# Altium footprint library DA2032-ALD.PcbLib: 1 footprints
Each footprint in its own frame and in the unit in brackets; x right, y up, seen from the top. Pads: shape width x height; smd on the part's side, far side on the other; paste and mask are expansions set on the pad; w line width, h text height; cw(c..) or ccw(c..) is an arc to the next point about the centre after c.
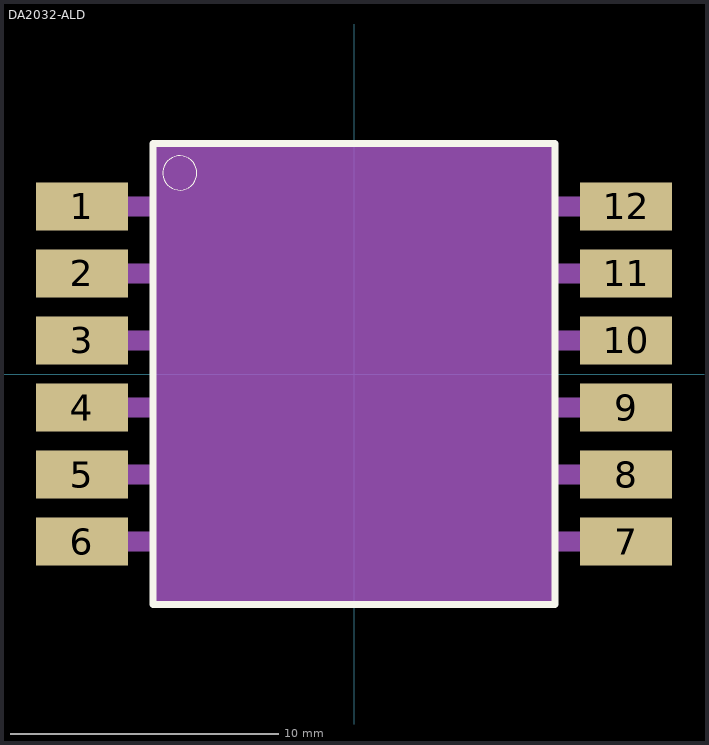
[diagram p0: the footprint, top view; thin cyan lines are the x and y axes]

## DA2032-ALD [mm] "Audio Transformers. SMD-12 Audio Transformers ROHS"
pads (12):
  rect 3.43x1.79 smd: 1(-10.155,6.25) 2(-10.155,3.75) 3(-10.155,1.25) 4(-10.155,-1.25) 5(-10.155,-3.75) 6(-10.155,-6.25) 7(10.155,-6.25) 8(10.155,-3.75) 9(10.155,-1.25) 10(10.155,1.25) 11(10.155,3.75) 12(10.155,6.25)
Top Overlay:
  circle w0.025: c-6.5,7.5 r0.64
  lines w0.254: -7.5,-8.6 7.5,-8.6 7.5,8.6 -7.5,8.6 -7.5,-8.6
Mechanical 13:
  circle w0.025: c-6.5,7.5 r0.3
  region: -7.49,-8.6 -7.49,8.6 7.49,8.6 7.49,-8.6
  region: -10.985,5.89 -10.985,6.61 -8.975,6.61 -8.975,5.89
  pour cut-out: -8.985,5.89 -8.985,6.61 -7.48,6.61 -7.48,5.89
  region: -10.985,3.39 -10.985,4.11 -8.975,4.11 -8.975,3.39
  pour cut-out: -8.985,3.39 -8.985,4.11 -7.48,4.11 -7.48,3.39
  region: -10.985,0.89 -10.985,1.61 -8.975,1.61 -8.975,0.89
  pour cut-out: -8.985,0.89 -8.985,1.61 -7.48,1.61 -7.48,0.89
  region: -10.985,-1.61 -10.985,-0.89 -8.975,-0.89 -8.975,-1.61
  pour cut-out: -8.985,-1.61 -8.985,-0.89 -7.48,-0.89 -7.48,-1.61
  region: -10.985,-4.11 -10.985,-3.39 -8.975,-3.39 -8.975,-4.11
  pour cut-out: -8.985,-4.11 -8.985,-3.39 -7.48,-3.39 -7.48,-4.11
  region: -10.985,-6.61 -10.985,-5.89 -8.975,-5.89 -8.975,-6.61
  pour cut-out: -8.985,-6.61 -8.985,-5.89 -7.48,-5.89 -7.48,-6.61
  region: 8.975,-6.61 8.975,-5.89 10.985,-5.89 10.985,-6.61
  pour cut-out: 7.48,-6.61 7.48,-5.89 8.985,-5.89 8.985,-6.61
  region: 8.975,-4.11 8.975,-3.39 10.985,-3.39 10.985,-4.11
  pour cut-out: 7.48,-4.11 7.48,-3.39 8.985,-3.39 8.985,-4.11
  region: 8.975,-1.61 8.975,-0.89 10.985,-0.89 10.985,-1.61
  pour cut-out: 7.48,-1.61 7.48,-0.89 8.985,-0.89 8.985,-1.61
  region: 8.975,0.89 8.975,1.61 10.985,1.61 10.985,0.89
  pour cut-out: 7.48,0.89 7.48,1.61 8.985,1.61 8.985,0.89
  region: 8.975,3.39 8.975,4.11 10.985,4.11 10.985,3.39
  pour cut-out: 7.48,3.39 7.48,4.11 8.985,4.11 8.985,3.39
  region: 8.975,5.89 8.975,6.61 10.985,6.61 10.985,5.89
  pour cut-out: 7.48,5.89 7.48,6.61 8.985,6.61 8.985,5.89